# EAGLE library part BQ76920 (library KylePile)
TI bq76920 cell monitor chip http://www.digikey.com/product-detail/en/texas-instruments/BQ7692000PWR/296-39958-1-ND/5177835 KRP untested 5/22/16
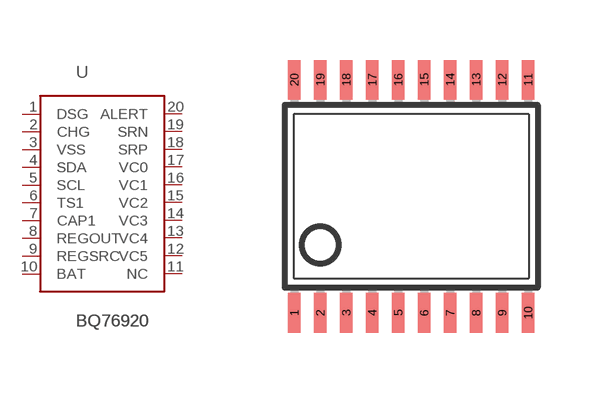
[diagram p25: symbol with the pads of TSSOP20; footprint TSSOP20]

Designator prefix U

## BQ76920  [TSSOP20]
1  DSG
2  CHG
3  VSS
4  SDA
5  SCL
6  TS1
7  CAP1
8  REGOUT
9  REGSRC
10  BAT
11  NC
12  VC5
13  VC4
14  VC3
15  VC2
16  VC1
17  VC0
18  SRP
19  SRN
20  ALERT

## Footprint TSSOP20 (pad centres in mm)
Thin Shrink Small Outline Plastic 20 MAX3223-MAX3243.pdf
smd 0.305 x 0.991: 1 -2.925,-2.918; 2 -2.275,-2.918; 3 -1.625,-2.918; 4 -0.975,-2.918; 5 -0.325,-2.918; 6 0.325,-2.918; 7 0.975,-2.918; 8 1.625,-2.918; 9 2.275,-2.918; 10 2.925,-2.918; 11 2.925,2.918; 12 2.275,2.918; 13 1.625,2.918; 14 0.975,2.918; 15 0.325,2.918; 16 -0.325,2.918; 17 -0.975,2.918; 18 -1.625,2.918; 19 -2.275,2.918; 20 -2.925,2.918